# EAGLE library part LC4256ZE_XXTN144_S (library lattice_ispMACH4000ZE)
ispMACH 4256ZE TQFP144, Split Lattice Semiconductor Corporation - ispMACH 4000ZE Ultra Low Power, Low Cost CPLD Family Generated using Lattice BSDL models: http://www.latticesemi.com/dynamic/index.cfm?fuseaction=view_documents&document_type=36&sloc=01-01-02-01&source=sidebar
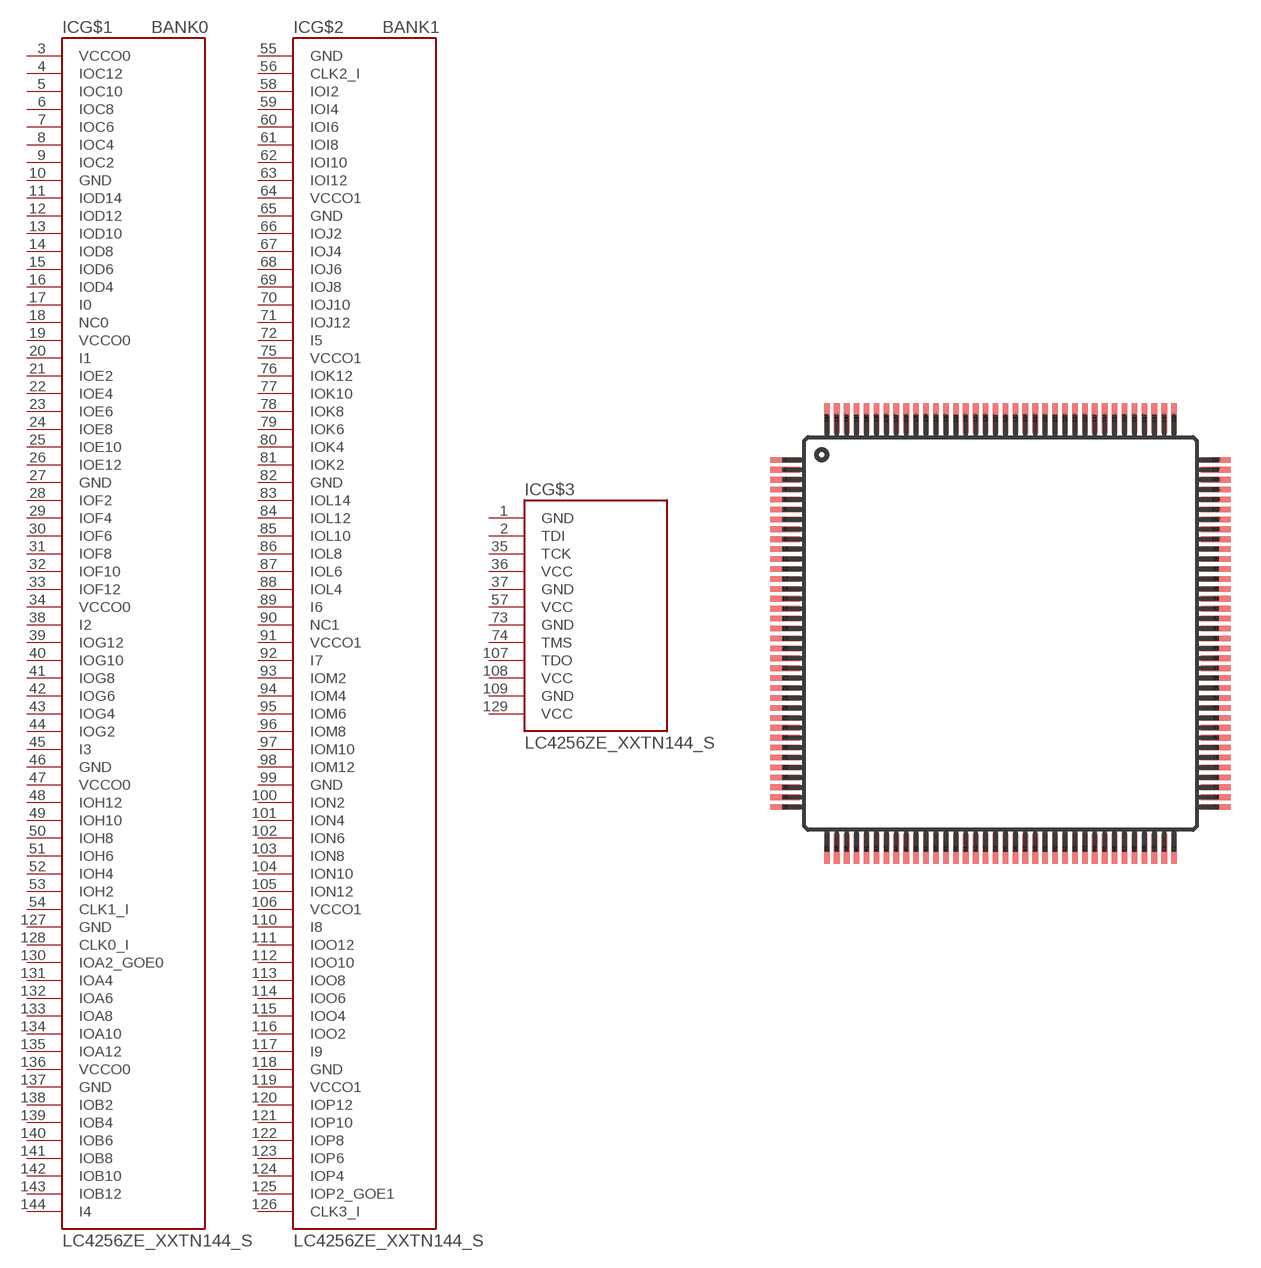
[diagram p25: symbol with the pads of TQFP144; footprint TQFP144]

Designator prefix IC; gates G$1=ISPMACH_LC4256_TN144_PARTA G$2=ISPMACH_LC4256_TN144_PARTB G$3=ISPMACH_LC4256_TN144_PARTC

## LC4256ZE_XXTN144_S  [TQFP144]
1  G$3:GND  pwr
2  G$3:TDI  in
3  G$1:VCCO0  pwr
4  G$1:IOC12
5  G$1:IOC10
6  G$1:IOC8
7  G$1:IOC6
8  G$1:IOC4
9  G$1:IOC2
10  G$1:GND  pwr
11  G$1:IOD14
12  G$1:IOD12
13  G$1:IOD10
14  G$1:IOD8
15  G$1:IOD6
16  G$1:IOD4
17  G$1:I0
18  G$1:NC0  pas
19  G$1:VCCO0  pwr
20  G$1:I1
21  G$1:IOE2
22  G$1:IOE4
23  G$1:IOE6
24  G$1:IOE8
25  G$1:IOE10
26  G$1:IOE12
27  G$1:GND  pwr
28  G$1:IOF2
29  G$1:IOF4
30  G$1:IOF6
31  G$1:IOF8
32  G$1:IOF10
33  G$1:IOF12
34  G$1:VCCO0  pwr
35  G$3:TCK  in
36  G$3:VCC  pwr
37  G$3:GND  pwr
38  G$1:I2
39  G$1:IOG12
40  G$1:IOG10
41  G$1:IOG8
42  G$1:IOG6
43  G$1:IOG4
44  G$1:IOG2
45  G$1:I3
46  G$1:GND  pwr
47  G$1:VCCO0  pwr
48  G$1:IOH12
49  G$1:IOH10
50  G$1:IOH8
51  G$1:IOH6
52  G$1:IOH4
53  G$1:IOH2
54  G$1:CLK1_I  in
55  G$2:GND  pwr
56  G$2:CLK2_I  in
57  G$3:VCC  pwr
58  G$2:IOI2
59  G$2:IOI4
60  G$2:IOI6
61  G$2:IOI8
62  G$2:IOI10
63  G$2:IOI12
64  G$2:VCCO1  pwr
65  G$2:GND  pwr
66  G$2:IOJ2
67  G$2:IOJ4
68  G$2:IOJ6
69  G$2:IOJ8
70  G$2:IOJ10
71  G$2:IOJ12
72  G$2:I5
73  G$3:GND  pwr
74  G$3:TMS  in
75  G$2:VCCO1  pwr
76  G$2:IOK12
77  G$2:IOK10
78  G$2:IOK8
79  G$2:IOK6
80  G$2:IOK4
81  G$2:IOK2
82  G$2:GND  pwr
83  G$2:IOL14
84  G$2:IOL12
85  G$2:IOL10
86  G$2:IOL8
87  G$2:IOL6
88  G$2:IOL4
89  G$2:I6
90  G$2:NC1  pas
91  G$2:VCCO1  pwr
92  G$2:I7
93  G$2:IOM2
94  G$2:IOM4
95  G$2:IOM6
96  G$2:IOM8
97  G$2:IOM10
98  G$2:IOM12
99  G$2:GND  pwr
100  G$2:ION2
101  G$2:ION4
102  G$2:ION6
103  G$2:ION8
104  G$2:ION10
105  G$2:ION12
106  G$2:VCCO1  pwr
107  G$3:TDO  out
108  G$3:VCC  pwr
109  G$3:GND  pwr
110  G$2:I8
111  G$2:IOO12
112  G$2:IOO10
113  G$2:IOO8
114  G$2:IOO6
115  G$2:IOO4
116  G$2:IOO2
117  G$2:I9
118  G$2:GND  pwr
119  G$2:VCCO1  pwr
120  G$2:IOP12
121  G$2:IOP10
122  G$2:IOP8
123  G$2:IOP6
124  G$2:IOP4
125  G$2:IOP2_GOE1
126  G$2:CLK3_I  in
127  G$1:GND  pwr
128  G$1:CLK0_I  in
129  G$3:VCC  pwr
130  G$1:IOA2_GOE0
131  G$1:IOA4
132  G$1:IOA6
133  G$1:IOA8
134  G$1:IOA10
135  G$1:IOA12
136  G$1:VCCO0  pwr
137  G$1:GND  pwr
138  G$1:IOB2
139  G$1:IOB4
140  G$1:IOB6
141  G$1:IOB8
142  G$1:IOB10
143  G$1:IOB12
144  G$1:I4

## Footprint TQFP144 (pad centres in mm)
TQFP - 144 http://www.latticesemi.com/lit/docs/package/pkg.pdf
smd 1.5 x 0.285: 1 -10.85,8.75; 2 -10.85,8.25; 3 -10.85,7.75; 4 -10.85,7.25; 5 -10.85,6.75; 6 -10.85,6.25; 7 -10.85,5.75; 8 -10.85,5.25; 9 -10.85,4.75; 10 -10.85,4.25; 11 -10.85,3.75; 12 -10.85,3.25; 13 -10.85,2.75; 14 -10.85,2.25; 15 -10.85,1.75; 16 -10.85,1.25; 17 -10.85,0.75; 18 -10.85,0.25; 19 -10.85,-0.25; 20 -10.85,-0.75; 21 -10.85,-1.25; 22 -10.85,-1.75; 23 -10.85,-2.25; 24 -10.85,-2.75; 25 -10.85,-3.25; 26 -10.85,-3.75; 27 -10.85,-4.25; 28 -10.85,-4.75; 29 -10.85,-5.25; 30 -10.85,-5.75; 31 -10.85,-6.25; 32 -10.85,-6.75; 33 -10.85,-7.25; 34 -10.85,-7.75; 35 -10.85,-8.25; 36 -10.85,-8.75; 73 10.85,-8.75; 74 10.85,-8.25; 75 10.85,-7.75; 76 10.85,-7.25; 77 10.85,-6.75; 78 10.85,-6.25; 79 10.85,-5.75; 80 10.85,-5.25; 81 10.85,-4.75; 82 10.85,-4.25; 83 10.85,-3.75; 84 10.85,-3.25; 85 10.85,-2.75; 86 10.85,-2.25; 87 10.85,-1.75; 88 10.85,-1.25; 89 10.85,-0.75; 90 10.85,-0.25; 91 10.85,0.25; 92 10.85,0.75; 93 10.85,1.25; 94 10.85,1.75; 95 10.85,2.25; 96 10.85,2.75; 97 10.85,3.25; 98 10.85,3.75; 99 10.85,4.25; 100 10.85,4.75; 101 10.85,5.25; 102 10.85,5.75; 103 10.85,6.25; 104 10.85,6.75; 105 10.85,7.25; 106 10.85,7.75; 107 10.85,8.25; 108 10.85,8.75
smd 0.285 x 1.5: 37 -8.75,-10.85; 38 -8.25,-10.85; 39 -7.75,-10.85; 40 -7.25,-10.85; 41 -6.75,-10.85; 42 -6.25,-10.85; 43 -5.75,-10.85; 44 -5.25,-10.85; 45 -4.75,-10.85; 46 -4.25,-10.85; 47 -3.75,-10.85; 48 -3.25,-10.85; 49 -2.75,-10.85; 50 -2.25,-10.85; 51 -1.75,-10.85; 52 -1.25,-10.85; 53 -0.75,-10.85; 54 -0.25,-10.85; 55 0.25,-10.85; 56 0.75,-10.85; 57 1.25,-10.85; 58 1.75,-10.85; 59 2.25,-10.85; 60 2.75,-10.85; 61 3.25,-10.85; 62 3.75,-10.85; 63 4.25,-10.85; 64 4.75,-10.85; 65 5.25,-10.85; 66 5.75,-10.85; 67 6.25,-10.85; 68 6.75,-10.85; 69 7.25,-10.85; 70 7.75,-10.85; 71 8.25,-10.85; 72 8.75,-10.85; 109 8.75,10.85; 110 8.25,10.85; 111 7.75,10.85; 112 7.25,10.85; 113 6.75,10.85; 114 6.25,10.85; 115 5.75,10.85; 116 5.25,10.85; 117 4.75,10.85; 118 4.25,10.85; 119 3.75,10.85; 120 3.25,10.85; 121 2.75,10.85; 122 2.25,10.85; 123 1.75,10.85; 124 1.25,10.85; 125 0.75,10.85; 126 0.25,10.85; 127 -0.25,10.85; 128 -0.75,10.85; 129 -1.25,10.85; 130 -1.75,10.85; 131 -2.25,10.85; 132 -2.75,10.85; 133 -3.25,10.85; 134 -3.75,10.85; 135 -4.25,10.85; 136 -4.75,10.85; 137 -5.25,10.85; 138 -5.75,10.85; 139 -6.25,10.85; 140 -6.75,10.85; 141 -7.25,10.85; 142 -7.75,10.85; 143 -8.25,10.85; 144 -8.75,10.85